# EAGLE library part RASPBERRY_PI_PICO (library teelsys-0.2)
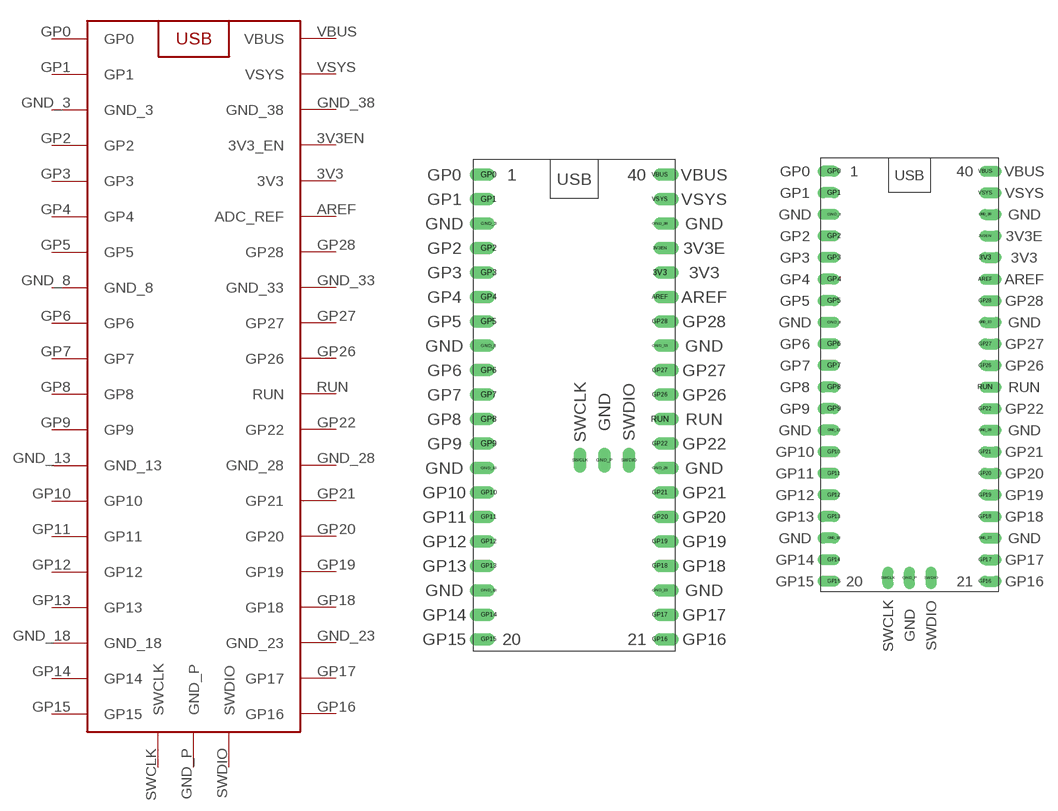
[diagram p18: symbol with the pads of RASPBERRY_PI_PICO_W; footprints RASPBERRY_PI_PICO_W, RASPBERRY_PI_PICO]

Designator prefix -

## RASPBERRY_PI_PICORASPBERRY_PI_PICO_W  [RASPBERRY_PI_PICO_W]
3V3  3V3
3V3EN  3V3_EN
AREF  ADC_REF
GND_3  GND_3
GND_8  GND_8
GND_13  GND_13
GND_18  GND_18
GND_23  GND_23
GND_28  GND_28
GND_33  GND_33
GND_38  GND_38
GND_P  GND_P
GP0  GP0
GP1  GP1
GP2  GP2
GP3  GP3
GP4  GP4
GP5  GP5
GP6  GP6
GP7  GP7
GP8  GP8
GP9  GP9
GP10  GP10
GP11  GP11
GP12  GP12
GP13  GP13
GP14  GP14
GP15  GP15
GP16  GP16
GP17  GP17
GP18  GP18
GP19  GP19
GP20  GP20
GP21  GP21
GP22  GP22
GP26  GP26
GP27  GP27
GP28  GP28
RUN  RUN
SWCLK  SWCLK
SWDIO  SWDIO
VBUS  VBUS
VSYS  VSYS

## RASPBERRY_PI_PICORASPBERRY_PI_PICO  [RASPBERRY_PI_PICO]
Pads as for RASPBERRY_PI_PICO_W

## RASPBERRY_PI_PICORASPBERRY_PI_PICO_&_W  [RASPBERRY_PI_PICO_N_W]
3V3  3V3
3V3EN  3V3_EN
AREF  ADC_REF
GND_3  GND_3
GND_8  GND_8
GND_13  GND_13
GND_18  GND_18
GND_23  GND_23
GND_28  GND_28
GND_33  GND_33
GND_38  GND_38
GND_P  GND_P
GND_P1  GND_P
GP0  GP0
GP1  GP1
GP2  GP2
GP3  GP3
GP4  GP4
GP5  GP5
GP6  GP6
GP7  GP7
GP8  GP8
GP9  GP9
GP10  GP10
GP11  GP11
GP12  GP12
GP13  GP13
GP14  GP14
GP15  GP15
GP16  GP16
GP17  GP17
GP18  GP18
GP19  GP19
GP20  GP20
GP21  GP21
GP22  GP22
GP26  GP26
GP27  GP27
GP28  GP28
RUN  RUN
SWCLK  SWCLK
SWCLK1  SWCLK
SWDIO  SWDIO
SWDIO1  SWDIO
VBUS  VBUS
VSYS  VSYS

## Footprint RASPBERRY_PI_PICO_W (pad centres in mm)
drill 0.8 offset: 3V3 19.39,39.3; 3V3EN 19.39,41.84; AREF 19.39,36.76; GND_3 1.61,44.38; GND_8 1.61,31.68; GND_13 1.61,18.98; GND_18 1.61,6.28; GND_23 19.39,6.28; GND_28 19.39,18.98; GND_33 19.39,31.68; GND_38 19.39,44.38; GP0 1.61,49.46; GP1 1.61,46.92; GP2 1.61,41.84; GP3 1.61,39.3; GP4 1.61,36.76; GP5 1.61,34.22; GP6 1.61,29.14; GP7 1.61,26.6; GP8 1.61,24.06; GP9 1.61,21.52; GP10 1.61,16.44; GP11 1.61,13.9; GP12 1.61,11.36; GP13 1.61,8.82; GP14 1.61,3.74; GP15 1.61,1.2; GP16 19.39,1.2; GP17 19.39,3.74; GP18 19.39,8.82; GP19 19.39,11.36; GP20 19.39,13.9; GP21 19.39,16.44; GP22 19.39,21.52; GP26 19.39,26.6; GP27 19.39,29.14; GP28 19.39,34.22; RUN 19.39,24.06; VBUS 19.39,49.46; VSYS 19.39,46.92
drill 0.8 long: GND_P 13.624,19.8; SWCLK 11.084,19.8; SWDIO 16.164,19.8

## Footprint RASPBERRY_PI_PICO (pad centres in mm)
drill 0.8 offset: 3V3 19.39,39.3; 3V3EN 19.39,41.84; AREF 19.39,36.76; GND_3 1.61,44.38; GND_8 1.61,31.68; GND_13 1.61,18.98; GND_18 1.61,6.28; GND_23 19.39,6.28; GND_28 19.39,18.98; GND_33 19.39,31.68; GND_38 19.39,44.38; GP0 1.61,49.46; GP1 1.61,46.92; GP2 1.61,41.84; GP3 1.61,39.3; GP4 1.61,36.76; GP5 1.61,34.22; GP6 1.61,29.14; GP7 1.61,26.6; GP8 1.61,24.06; GP9 1.61,21.52; GP10 1.61,16.44; GP11 1.61,13.9; GP12 1.61,11.36; GP13 1.61,8.82; GP14 1.61,3.74; GP15 1.61,1.2; GP16 19.39,1.2; GP17 19.39,3.74; GP18 19.39,8.82; GP19 19.39,11.36; GP20 19.39,13.9; GP21 19.39,16.44; GP22 19.39,21.52; GP26 19.39,26.6; GP27 19.39,29.14; GP28 19.39,34.22; RUN 19.39,24.06; VBUS 19.39,49.46; VSYS 19.39,46.92
drill 0.8 long: GND_P 10.5,1.6; SWCLK 7.96,1.6; SWDIO 13.04,1.6

## Footprint RASPBERRY_PI_PICO_N_W (pad centres in mm)
drill 0.8 offset: 3V3 19.39,39.3; 3V3EN 19.39,41.84; AREF 19.39,36.76; GND_3 1.61,44.38; GND_8 1.61,31.68; GND_13 1.61,18.98; GND_18 1.61,6.28; GND_23 19.39,6.28; GND_28 19.39,18.98; GND_33 19.39,31.68; GND_38 19.39,44.38; GP0 1.61,49.46; GP1 1.61,46.92; GP2 1.61,41.84; GP3 1.61,39.3; GP4 1.61,36.76; GP5 1.61,34.22; GP6 1.61,29.14; GP7 1.61,26.6; GP8 1.61,24.06; GP9 1.61,21.52; GP10 1.61,16.44; GP11 1.61,13.9; GP12 1.61,11.36; GP13 1.61,8.82; GP14 1.61,3.74; GP15 1.61,1.2; GP16 19.39,1.2; GP17 19.39,3.74; GP18 19.39,8.82; GP19 19.39,11.36; GP20 19.39,13.9; GP21 19.39,16.44; GP22 19.39,21.52; GP26 19.39,26.6; GP27 19.39,29.14; GP28 19.39,34.22; RUN 19.39,24.06; VBUS 19.39,49.46; VSYS 19.39,46.92
drill 0.8 long: GND_P 13.624,19.8; GND_P1 10.5,1.6; SWCLK 11.084,19.8; SWCLK1 7.96,1.6; SWDIO 16.164,19.8; SWDIO1 13.04,1.6